# EAGLE library part MCP2544FDT-H/MF (library serial_interfaces)
1/1 Transceiver - CANbus 8-DFN (3x3) Datasheet <https://ww1.microchip.com/downloads/en/DeviceDoc/MCP2542FD-MCP2542WFD-4WFD-Data-Sheet-DS20005514C.pdf>
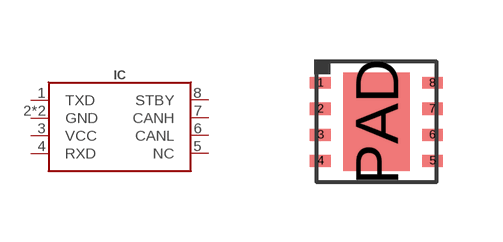
[diagram p1: symbol with the pads of SOT782-1; footprint SOT782-1]

Designator prefix IC

## MCP2544FDT-H/MF-DFN8(3X3) (DIGIKEY#: MCP2544FDT-H/MFCT-ND; MANF: Microchip Technology; MANF#: MCP2544FDT-H/MF; OPERATING_TEMP: -40°C ~ 150°C)  [SOT782-1]
1  TXD
2  GND
3  VCC
4  RXD
5  NC
6  CANL
7  CANH
8  STBY
PAD  GND

## Footprint SOT782-1 (pad centres in mm)
http://www.nxp.com/packages/SOT782-1
smd 0.525 x 0.3: 1 -1.4,0.975; 2 -1.4,0.325; 3 -1.4,-0.325; 4 -1.4,-0.975; 5 1.4,-0.975; 6 1.4,-0.325; 7 1.4,0.325; 8 1.4,0.975
smd 1.65 x 2.45: PAD 0,0